# Altium schematic symbol library IC_Texas_Instruments_SN74HC125PWR_eec.SchLib: 1 symbol
Pins are listed as number, name and electrical type; pins without a type are passive.

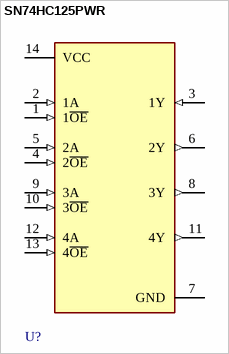
[diagram p0: symbol SN74HC125PWR]

## SN74HC125PWR
designator U?  (value not drawn)
pins: 1 1~{OE} (in), 2 1A (in), 3 1Y (in), 4 2~{OE} (in), 5 2A (in), 6 2Y (out), 7 GND (power), 8 3Y (out), 9 3A (in), 10 3~{OE} (in), 11 4Y (out), 12 4A (in), 13 4~{OE} (in), 14 VCC (power)